# Altium schematic symbol library Mcu.SchLib: 20 symbols
Pins are listed as number, name and electrical type; pins without a type are passive.

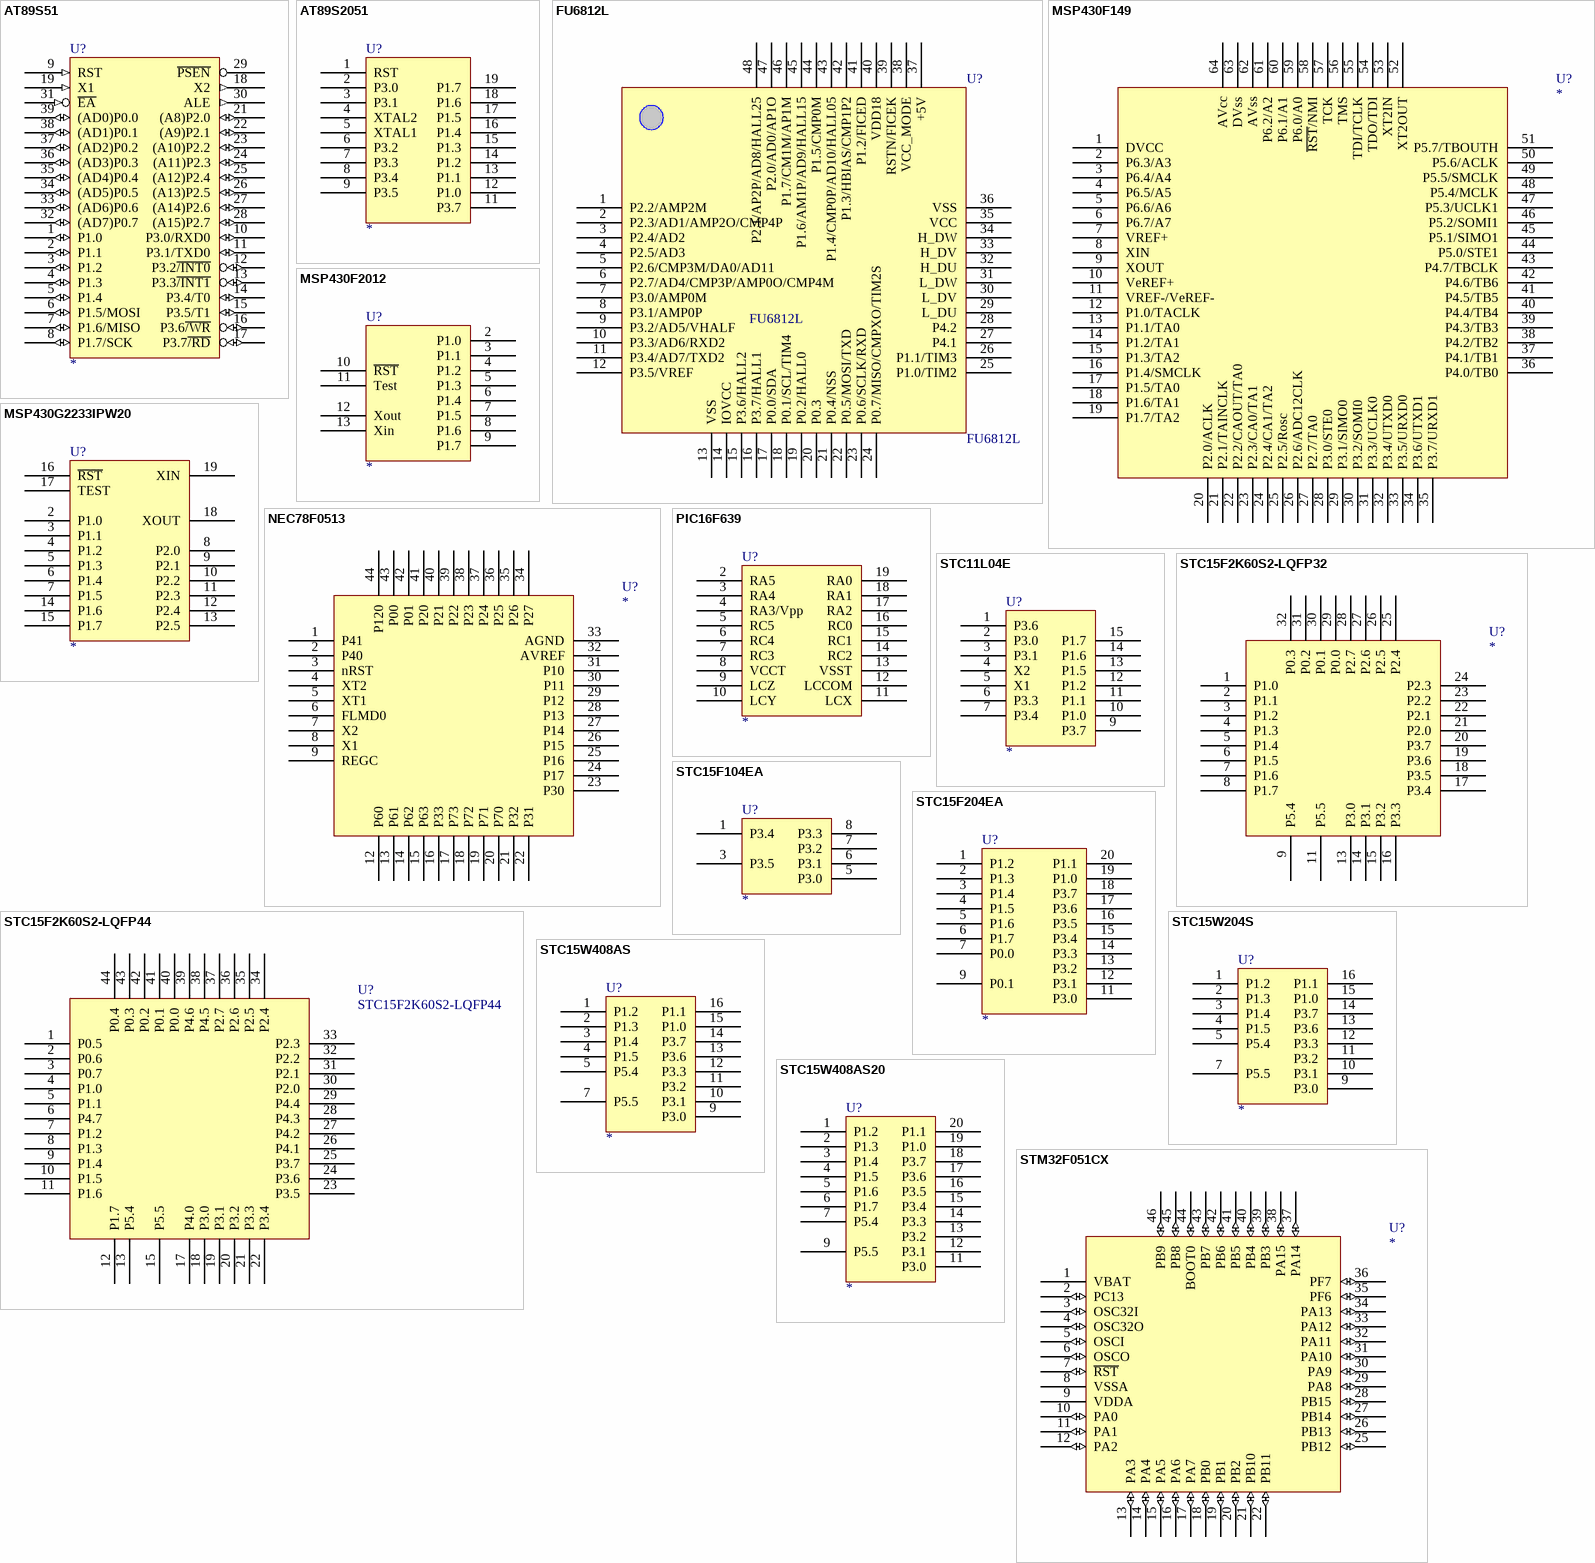
[diagram p0: symbols AT89S51 to STM32F051CX]

## AT89S51
designator U?
HIGH SPEED/LOW POWER MICRO
footprint DIP-40
pins: 1 P1.0 (io), 2 P1.1 (io), 3 P1.2 (io), 4 P1.3 (io), 5 P1.4 (io), 6 P1.5/MOSI (io), 7 P1.6/MISO (io), 8 P1.7/SCK (io), 9 RST (in), 10 P3.0/RXD0 (io), 11 P3.1/TXD0 (io), 12 P3.2~{/INT0} (io), 13 P3.3~{/INT1} (io), 14 P3.4/T0 (io), 15 P3.5/T1 (io), 16 P3.6~{/WR} (io), 17 P3.7~{/RD} (io), 18 X2 (out), 19 X1 (in), 20 GND (power) hidden to GND, 21 (A8)P2.0 (io), 22 (A9)P2.1 (io), 23 (A10)P2.2 (io), 24 (A11)P2.3 (io), 25 (A12)P2.4 (io), 26 (A13)P2.5 (io), 27 (A14)P2.6 (io), 28 (A15)P2.7 (io), 29 ~{PSEN} (oc), 30 ALE (out), 31 ~{EA} (in), 32 (AD7)P0.7 (io), 33 (AD6)P0.6 (io), 34 (AD5)P0.5 (io), 35 (AD4)P0.4 (io), 36 (AD3)P0.3 (io), 37 (AD2)P0.2 (io), 38 (AD1)P0.1 (io), 39 (AD0)P0.0 (io), 40 VCC (power) hidden to VCC

## AT89S2051
designator U?
footprint DIP-20
pins: 1 RST, 2 P3.0, 3 P3.1, 4 XTAL2, 5 XTAL1, 6 P3.2, 7 P3.3, 8 P3.4, 9 P3.5, 10 GND (power) hidden to GND, 11 P3.7, 12 P1.0, 13 P1.1, 14 P1.2, 15 P1.3, 16 P1.4, 17 P1.5, 18 P1.6, 19 P1.7, 20 VCC (power) hidden to VCC

## FU6812L
designator U?
footprint LQFP48
pins: 1 P2.2/AMP2M, 2 P2.3/AD1/AMP2O/CMP4P, 3 P2.4/AD2, 4 P2.5/AD3, 5 P2.6/CMP3M/DA0/AD11, 6 P2.7/AD4/CMP3P/AMP0O/CMP4M, 7 P3.0/AMP0M, 8 P3.1/AMP0P, 9 P3.2/AD5/VHALF, 10 P3.3/AD6/RXD2, 11 P3.4/AD7/TXD2, 12 P3.5/VREF, 13 VSS, 14 IOVCC, 15 P3.6/HALL2, 16 P3.7/HALL1, 17 P0.0/SDA, 18 P0.1/SCL/TIM4, 19 P0.2/HALL0, 20 P0.3, 21 P0.4/NSS, 22 P0.5/MOSI/TXD, 23 P0.6/SCLK/RXD, 24 P0.7/MISO/CMPXO/TIM2S, 25 P1.0/TIM2, 26 P1.1/TIM3, 27 P4.1, 28 P4.2, 29 L_DU, 30 L_DV, 31 L_DW, 32 H_DU, 33 H_DV, 34 H_DW, 35 VCC, 36 VSS, 37 +5V, 38 VCC_MODE, 39 RSTN/FICEK, 40 VDD18, 41 P1.2/FICED, 42 P1.3/HBIAS/CMP1P2, 43 P1.4/CMP0P/AD10/HALL05, 44 P1.5/CMP0M, 45 P1.6/AM1P/AD9/HALL15, 46 P1.7/CM1M/AP1M, 47 P2.0/AD0/AP1O, 48 P2.1/AP2P/AD8/HALL25
2 alternate drawings of the same symbol

## MSP430F149
designator U?
footprint PQFP10X10-64
pins: 1 DVCC, 2 P6.3/A3, 3 P6.4/A4, 4 P6.5/A5, 5 P6.6/A6, 6 P6.7/A7, 7 VREF+, 8 XIN, 9 XOUT, 10 VeREF+, 11 VREF-/VeREF-, 12 P1.0/TACLK, 13 P1.1/TA0, 14 P1.2/TA1, 15 P1.3/TA2, 16 P1.4/SMCLK, 17 P1.5/TA0, 18 P1.6/TA1, 19 P1.7/TA2, 20 P2.0/ACLK, 21 P2.1/TAINCLK, 22 P2.2/CAOUT/TA0, 23 P2.3/CA0/TA1, 24 P2.4/CA1/TA2, 25 P2.5/Rosc, 26 P2.6/ADC12CLK, 27 P2.7/TA0, 28 P3.0/STE0, 29 P3.1/SIMO0, 30 P3.2/SOMI0, 31 P3.3/UCLK0, 32 P3.4/UTXD0, 33 P3.5/URXD0, 34 P3.6/UTXD1, 35 P3.7/URXD1, 36 P4.0/TB0, 37 P4.1/TB1, 38 P4.2/TB2, 39 P4.3/TB3, 40 P4.4/TB4, 41 P4.5/TB5, 42 P4.6/TB6, 43 P4.7/TBCLK, 44 P5.0/STE1, 45 P5.1/SIMO1, 46 P5.2/SOMI1, 47 P5.3/UCLK1, 48 P5.4/MCLK, 49 P5.5/SMCLK, 50 P5.6/ACLK, 51 P5.7/TBOUTH, 52 XT2OUT, 53 XT2IN, 54 TDO/TDI, 55 TDI/TCLK, 56 TMS, 57 TCK, 58 ~{RST}/NMI, 59 P6.0/A0, 60 P6.1/A1, 61 P6.2/A2, 62 AVss, 63 DVss, 64 AVcc

## MSP430F2012
designator U?
footprint SSOP-14A
pins: 1 VCC (power) hidden to VCC, 2 P1.0, 3 P1.1, 4 P1.2, 5 P1.3, 6 P1.4, 7 P1.5, 8 P1.6, 9 P1.7, 10 ~{RST}, 11 Test, 12 Xout, 13 Xin, 14 GND (power) hidden to GND

## MSP430G2233IPW20
designator U?
footprint TSSOP-20A
pins: 1 VCC (power) hidden to VCC, 2 P1.0, 3 P1.1, 4 P1.2, 5 P1.3, 6 P1.4, 7 P1.5, 8 P2.0, 9 P2.1, 10 P2.2, 11 P2.3, 12 P2.4, 13 P2.5, 14 P1.6 (power), 15 P1.7, 16 ~{RST}, 17 TEST, 18 XOUT, 19 XIN, 20 GND hidden to GND

## NEC78F0513
designator U?
footprint LQFP-44
pins: 1 P41, 2 P40, 3 nRST, 4 XT2, 5 XT1, 6 FLMD0, 7 X2, 8 X1, 9 REGC, 10 GND (power) hidden to GND, 11 VCC (power) hidden to VCC, 12 P60, 13 P61, 14 P62, 15 P63, 16 P33, 17 P73, 18 P72, 19 P71, 20 P70, 21 P32, 22 P31, 23 P30, 24 P17, 25 P16, 26 P15, 27 P14, 28 P13, 29 P12, 30 P11, 31 P10, 32 AVREF, 33 AGND, 34 P27, 35 P26, 36 P25, 37 P24, 38 P23, 39 P22, 40 P21, 41 P20, 42 P01, 43 P00, 44 P120

## PIC16F639
designator U?
footprint SSOP-20
pins: 1 VCC (power) hidden to VCC, 2 RA5, 3 RA4, 4 RA3/Vpp, 5 RC5, 6 RC4, 7 RC3, 8 VCCT, 9 LCZ, 10 LCY, 11 LCX, 12 LCCOM, 13 VSST, 14 RC2, 15 RC1, 16 RC0, 17 RA2, 18 RA1, 19 RA0, 20 GND (power) hidden to GND

## STC11L04E
designator U?
footprint SOP-16
pins: 1 P3.6, 2 P3.0, 3 P3.1, 4 X2, 5 X1, 6 P3.3, 7 P3.4, 8 GND (power) hidden to GND, 9 P3.7, 10 P1.0, 11 P1.1, 12 P1.2, 13 P1.5, 14 P1.6, 15 P1.7, 16 VCC (power) hidden to VCC

## STC15F2K60S2-LQFP32
designator U?
footprint LQFP-32
pins: 1 P1.0, 2 P1.1, 3 P1.2, 4 P1.3, 5 P1.4, 6 P1.5, 7 P1.6, 8 P1.7, 9 P5.4, 10 VCC (power) hidden to VCC, 11 P5.5, 12 GND (power) hidden to GND, 13 P3.0, 14 P3.1, 15 P3.2, 16 P3.3, 17 P3.4, 18 P3.5, 19 P3.6, 20 P3.7, 21 P2.0, 22 P2.1, 23 P2.2, 24 P2.3, 25 P2.4, 26 P2.5, 27 P2.6, 28 P2.7, 29 P0.0, 30 P0.1, 31 P0.2, 32 P0.3

## STC15F2K60S2-LQFP44
designator U?
footprint LQFP-44
pins: 1 P0.5, 2 P0.6, 3 P0.7, 4 P1.0, 5 P1.1, 6 P4.7, 7 P1.2, 8 P1.3, 9 P1.4, 10 P1.5 (power), 11 P1.6, 12 P1.7 (power), 13 P5.4, 14 VCC (power) hidden to VCC, 15 P5.5, 16 GND (power) hidden to GND, 17 P4.0, 18 P3.0, 19 P3.1, 20 P3.2, 21 P3.3, 22 P3.4, 23 P3.5, 24 P3.6, 25 P3.7, 26 P4.1, 27 P4.2, 28 P4.3, 29 P4.4, 30 P2.0, 31 P2.1, 32 P2.2, 33 P2.3, 34 P2.4, 35 P2.5, 36 P2.6, 37 P2.7, 38 P4.5, 39 P4.6, 40 P0.0, 41 P0.1, 42 P0.2, 43 P0.3, 44 P0.4

## STC15F104EA
designator U?
footprint SOP-8
pins: 1 P3.4, 2 VCC (power) hidden to VCC, 3 P3.5, 4 GND (power) hidden to GND, 5 P3.0, 6 P3.1, 7 P3.2, 8 P3.3

## STC15F204EA
designator U?
footprint DIP-20
pins: 1 P1.2, 2 P1.3, 3 P1.4, 4 P1.5, 5 P1.6, 6 P1.7, 7 P0.0, 8 VCC (power) hidden to VCC, 9 P0.1, 10 GND (power) hidden to GND, 11 P3.0, 12 P3.1, 13 P3.2, 14 P3.3, 15 P3.4, 16 P3.5, 17 P3.6, 18 P3.7, 19 P1.0, 20 P1.1

## STC15W204S
designator U?
footprint SOP-16
pins: 1 P1.2, 2 P1.3, 3 P1.4, 4 P1.5, 5 P5.4, 6 VCC (power) hidden to VCC, 7 P5.5, 8 GND (power) hidden to GND, 9 P3.0, 10 P3.1, 11 P3.2, 12 P3.3, 13 P3.6, 14 P3.7, 15 P1.0, 16 P1.1

## STC15W408AS
designator U?
footprint SOP-16
pins: 1 P1.2, 2 P1.3, 3 P1.4, 4 P1.5, 5 P5.4, 6 VCC (power) hidden to VCC, 7 P5.5, 8 GND (power) hidden to GND, 9 P3.0, 10 P3.1, 11 P3.2, 12 P3.3, 13 P3.6, 14 P3.7, 15 P1.0, 16 P1.1

## STC15W408AS20
designator U?
footprint SOP-20W
pins: 1 P1.2, 2 P1.3, 3 P1.4, 4 P1.5, 5 P1.6, 6 P1.7, 7 P5.4, 8 VCC (power) hidden to VCC, 9 P5.5, 10 GND (power) hidden to GND, 11 P3.0, 12 P3.1, 13 P3.2, 14 P3.3, 15 P3.4, 16 P3.5, 17 P3.6, 18 P3.7, 19 P1.0, 20 P1.1

## STM32F051CX
designator U?
footprint LQFP-48
pins: 1 VBAT (power), 2 PC13 (io), 3 OSC32I (io), 4 OSC32O (io), 5 OSCI (io), 6 OSCO (io), 7 ~{RST} (io), 8 VSSA (power), 9 VDDA (power), 10 PA0 (io), 11 PA1 (io), 12 PA2 (io), 13 PA3 (io), 14 PA4 (io), 15 PA5 (io), 16 PA6 (io), 17 PA7 (io), 18 PB0 (io), 19 PB1 (io), 20 PB2 (io), 21 PB10 (io), 22 PB11 (io), 23 GND (power) hidden to GND, 24 VCC (power) hidden to VCC, 25 PB12 (io), 26 PB13 (io), 27 PB14 (io), 28 PB15 (io), 29 PA8 (io), 30 PA9 (io), 31 PA10 (io), 32 PA11 (io), 33 PA12 (io), 34 PA13 (io), 35 PF6 (io), 36 PF7 (io), 37 PA14 (io), 38 PA15 (io), 39 PB3 (io), 40 PB4 (io), 41 PB5 (io), 42 PB6 (io), 43 PB7 (io), 44 BOOT0 (io), 45 PB8 (io), 46 PB9 (io), 47 GND (power) hidden to GND, 48 VCC (power) hidden to VCC

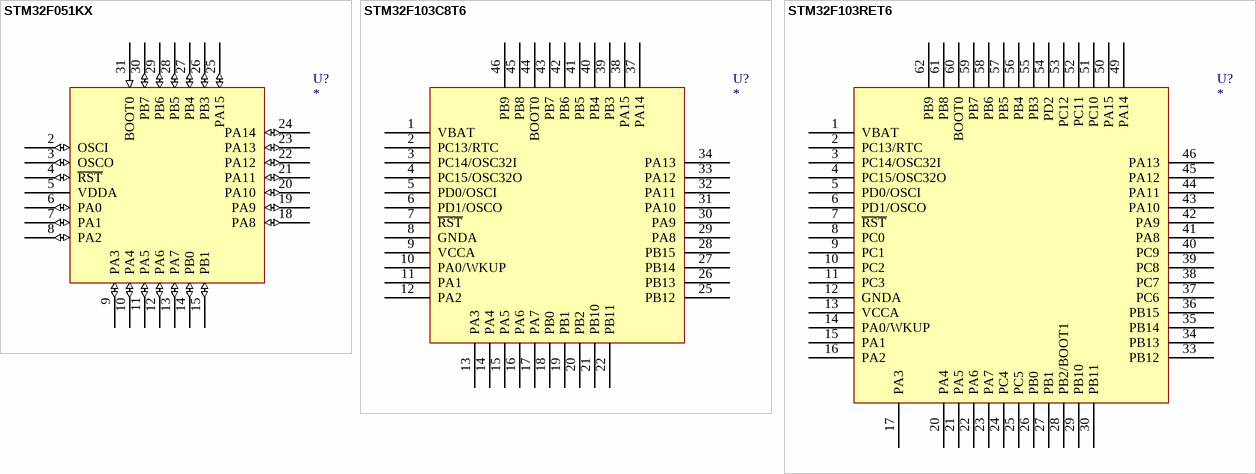
[diagram p1: symbols STM32F051KX to STM32F103RET6]

## STM32F051KX
designator U?
footprint LQFP-32
pins: 1 VCC (power) hidden to VCC, 2 OSCI (io), 3 OSCO (io), 4 ~{RST} (io), 5 VDDA (power), 6 PA0 (io), 7 PA1 (io), 8 PA2 (io), 9 PA3 (io), 10 PA4 (io), 11 PA5 (io), 12 PA6 (io), 13 PA7 (io), 14 PB0 (io), 15 PB1 (io), 16 GND (power) hidden to GND, 17 VCC (power) hidden to VCC, 18 PA8 (io), 19 PA9 (io), 20 PA10 (io), 21 PA11 (io), 22 PA12 (io), 23 PA13 (io), 24 PA14 (io), 25 PA15 (io), 26 PB3 (io), 27 PB4 (io), 28 PB5 (io), 29 PB6 (io), 30 PB7 (io), 31 BOOT0 (in), 32 GND (power) hidden to GND

## STM32F103C8T6
designator U?
SN: 4261; DES: 32位ARM单片机
footprint LQFP-48
pins: 1 VBAT, 2 PC13/RTC, 3 PC14/OSC32I, 4 PC15/OSC32O, 5 PD0/OSCI, 6 PD1/OSCO, 7 ~{RST}, 8 GNDA, 9 VCCA, 10 PA0/WKUP, 11 PA1, 12 PA2, 13 PA3, 14 PA4, 15 PA5, 16 PA6, 17 PA7, 18 PB0, 19 PB1, 20 PB2, 21 PB10, 22 PB11, 23 GND (power) hidden to GND, 24 VCC (power) hidden to VCC, 25 PB12, 26 PB13, 27 PB14, 28 PB15, 29 PA8, 30 PA9, 31 PA10, 32 PA11, 33 PA12, 34 PA13, 35 GND (power) hidden to GND, 36 VCC (power) hidden to VCC, 37 PA14, 38 PA15, 39 PB3, 40 PB4, 41 PB5, 42 PB6, 43 PB7, 44 BOOT0, 45 PB8, 46 PB9, 47 GND (power) hidden to GND, 48 VCC (power) hidden to VCC

## STM32F103RET6
designator U?
footprint LQFP-64
pins: 1 VBAT, 2 PC13/RTC, 3 PC14/OSC32I, 4 PC15/OSC32O, 5 PD0/OSCI, 6 PD1/OSCO, 7 ~{RST}, 8 PC0, 9 PC1, 10 PC2, 11 PC3, 12 GNDA, 13 VCCA, 14 PA0/WKUP, 15 PA1, 16 PA2, 17 PA3, 18 GND (power) hidden to GND, 19 VCC (power) hidden to VCC, 20 PA4, 21 PA5, 22 PA6, 23 PA7, 24 PC4, 25 PC5, 26 PB0, 27 PB1, 28 PB2/BOOT1, 29 PB10, 30 PB11, 31 GND (power) hidden to GND, 32 VCC (power) hidden to VCC, 33 PB12, 34 PB13, 35 PB14, 36 PB15, 37 PC6, 38 PC7, 39 PC8, 40 PC9, 41 PA8, 42 PA9, 43 PA10, 44 PA11, 45 PA12, 46 PA13, 47 GND (power) hidden to GND, 48 VCC (power) hidden to VCC, 49 PA14, 50 PA15, 51 PC10, 52 PC11, 53 PC12, 54 PD2, 55 PB3, 56 PB4, 57 PB5, 58 PB6, 59 PB7, 60 BOOT0, 61 PB8, 62 PB9, 63 GND (power) hidden to GND, 64 VCC (power) hidden to VCC